# EAGLE library part MICRF600 (library micrel)
902-928MHz ISM Band Transceiver Module
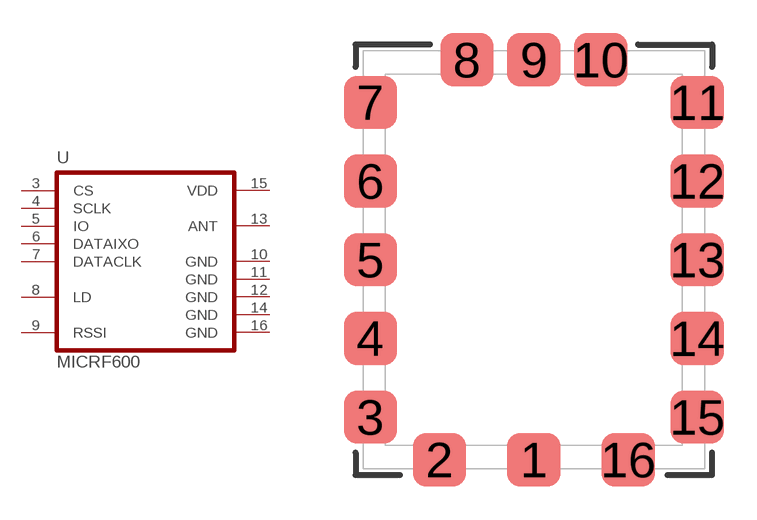
[diagram p9: symbol with the pads of MICRF600; footprint MICRF600]

Designator prefix U

## MICRF600  [MICRF600]
3  CS  in
4  SCLK  in
5  IO
6  DATAIXO
7  DATACLK  out
8  LD  out
9  RSSI  out
10  GND  pwr
11  GND  pwr
12  GND  pwr
13  ANT  in
14  GND  pwr
15  VDD  pwr
16  GND  pwr

## Footprint MICRF600 (pad centres in mm)
MICRF600 TRANSCIEVER MODULE
smd 1.8 x 1.8: 1 0,-6.735; 2 -3.175,-6.735; 3 -5.5,-5.3; 4 -5.5,-2.65; 5 -5.5,0; 6 -5.5,2.65; 7 -5.5,5.3; 8 -2.25,6.735; 9 0,6.735; 10 2.25,6.735; 11 5.5,5.3; 12 5.5,2.65; 13 5.5,0; 14 5.5,-2.65; 15 5.5,-5.3; 16 3.175,-6.735